# Altium integrated library L7805CV.IntLib: 1 symbol
Pins are listed as number, name and electrical type; pins without a type are passive.

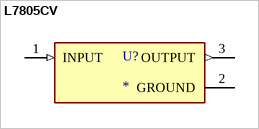
[diagram p0: symbol L7805CV]

## L7805CV
designator U?
Linear Voltage Regulator IC Positive Fixed 1 Output 1.5A TO-220; MP: L7805CV; MF: STMicroelectronics; SnapEDA_Link: https://www.snapeda.com/parts/L7805CV/STMicroelectronics/view-part/?ref=snap; Package: TO-220-3 ON Semiconductor; Check_prices: https://www.snapeda.com/parts/L7805CV/STMicroelectronics/view-part/?ref=eda; Purchase-URL: https://pricing.snapeda.com/search/part/L7805CV/?ref=eda; Price: None; Value: *; Availability: In Stock
footprint TO255P1040X460X1968-3
pins: 1 INPUT (in), 2 GROUND (power), 3 OUTPUT (out)